# Altium schematic symbol library vitech_ic.SchLib: 6 symbols
Pins are listed as number, name and electrical type; pins without a type are passive.

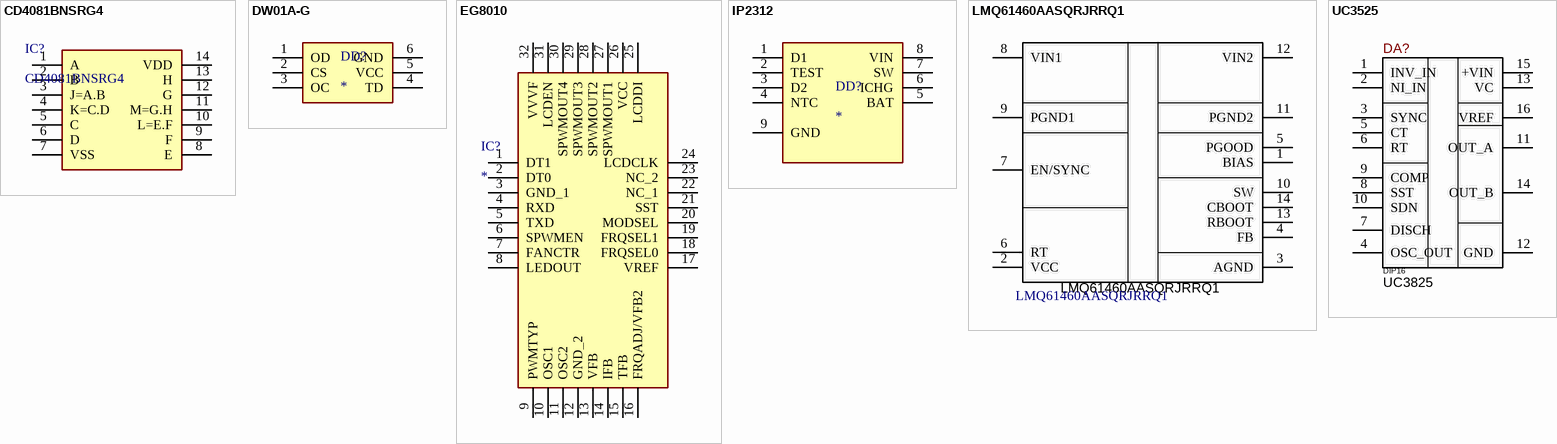
[diagram p0: symbols CD4081BNSRG4 to UC3525]

## CD4081BNSRG4
designator IC?
Integrated Circuit; Manufacturer_Name: Texas Instruments; Datasheet Link: https://www.ti.com/lit/gpn/cd4081b; Height: 2mm; Manufacturer_Part_Number: CD4081BNSRG4; Mouser Part Number: 595-CD4081BNSRG4; Mouser Price/Stock: https://www.mouser.com/Search/Refine.aspx?Keyword=595-CD4081BNSRG4; Component Type: SMD
footprint SOIC127P780X200-14N
pins: 1 A, 2 B, 3 J=A.B, 4 K=C.D, 5 C, 6 D, 7 VSS, 8 E, 9 F, 10 L=E.F, 11 M=G.H, 12 G, 13 H, 14 VDD

## DW01A-G
designator DD?
One Cell Lithium-ion/Polymer Battery Protection IC; Component Type: SMD
footprint DW01A-G
pins: 1 OD, 2 CS, 3 OC, 4 TD, 5 VCC, 6 GND

## EG8010
designator IC?
Integrated Circuit; Manufacturer_Name: Glenair; Manufacturer_Part_Number: EG8010; Datasheet Link: https://datasheetspdf.com/pdf-file/729849/EGMicro/EG8010/1; Height: 1.6mm
footprint QFP80P900X900X160-32N
pins: 1 DT1, 2 DT0, 3 GND_1, 4 RXD, 5 TXD, 6 SPWMEN, 7 FANCTR, 8 LEDOUT, 9 PWMTYP, 10 OSC1, 11 OSC2, 12 GND_2, 13 VFB, 14 IFB, 15 TFB, 16 FRQADJ/VFB2, 17 VREF, 18 FRQSEL0, 19 FRQSEL1, 20 MODSEL, 21 SST, 22 NC_1, 23 NC_2, 24 LCDCLK, 25 LCDDI, 26 VCC, 27 SPWMOUT1, 28 SPWMOUT2, 29 SPWMOUT3, 30 SPWMOUT4, 31 LCDEN, 32 VVVF

## IP2312
designator DD?
Component Type: SMD
footprint IP2313 (ESOP-8L DC-DC Converters RoHS)
pins: 1 D1, 2 TEST, 3 D2, 4 NTC, 5 BAT, 6 ICHG, 7 SW, 8 VIN, 9 GND

## LMQ61460AASQRJRRQ1
designator D?
Automotive 3-V to 36-V, 6-A low EMI synchronous step-down quiet converter with integrated capacitors; Manufacturer: Texas Instruments; ComponentLink1Description: Datasheet; ComponentLink1URL: https://www.ti.com/lit/ds/symlink/lmq61460-q1.pdf?ts=1735116291350&ref_url=https%253A%252F%252Fwww.ti.com%252Fproduct%252FLMQ61460-Q1%252Fpart-details%252FLMQ61460AASQRJRRQ1; Component Type: SMD; Package: VQFN-HR (RJR) | 14; Part Number: LMQ61460AASQRJRRQ1
footprint LMQ61460AASQRJRRQ1
pins: 1 BIAS, 2 VCC (power), 3 AGND (power), 4 FB, 5 PGOOD (oc), 6 RT, 7 EN/SYNC, 8 VIN1 (power), 9 PGND1 (power), 10 SW, 11 PGND2 (power), 12 VIN2 (power), 13 RBOOT, 14 CBOOT

## UC3525
designator DA?  Package: DIP16  Part Number: UC3825  (hidden comment: UC3525)
Buck, Push-Pull Regulator Positive Output Step-Down, Step-Up/Step-Down DC-DC Controller IC 16-DIP/16-SOIC; Manufacturer: Texas; Standard Lead Time: 8 Weeks; Component Status: Released; Replacement: NONE; GUID_1C: 956a5446-e932-11eb-ab74-0050569f2651; Part Type: IC REG CTRLR BCK/PUSH-PULL; Component Type: SMD; Temperature Range: -40°C ~ 125°C; ComponentLink1URL: https://assets.nexperia.com/documents/data-sheet/74HC_HCT4051.pdf; Supplier 1: Digi-Key; Supplier Part Number 1: 1727-6049-2-ND; Price: 0.11383574; ComponentLink1Description: Datasheet
footprint DIP16
footprint SOIC-16
pins: 1 INV_IN, 2 NI_IN, 3 SYNC, 4 OSC_OUT, 5 CT, 6 RT, 7 DISCH, 8 SST, 9 COMP, 10 SDN, 11 OUT_A, 12 GND, 13 VC, 14 OUT_B, 15 +VIN, 16 VREF